# Altium footprint library CustomParts.PcbLib: 55 footprints (part 2 of 4)
Each footprint in its own frame and in the unit in brackets; x right, y up, seen from the top. Pads: shape width x height; smd on the part's side, far side on the other; paste and mask are expansions set on the pad; w line width, h text height; cw(c..) or ccw(c..) is an arc to the next point about the centre after c.
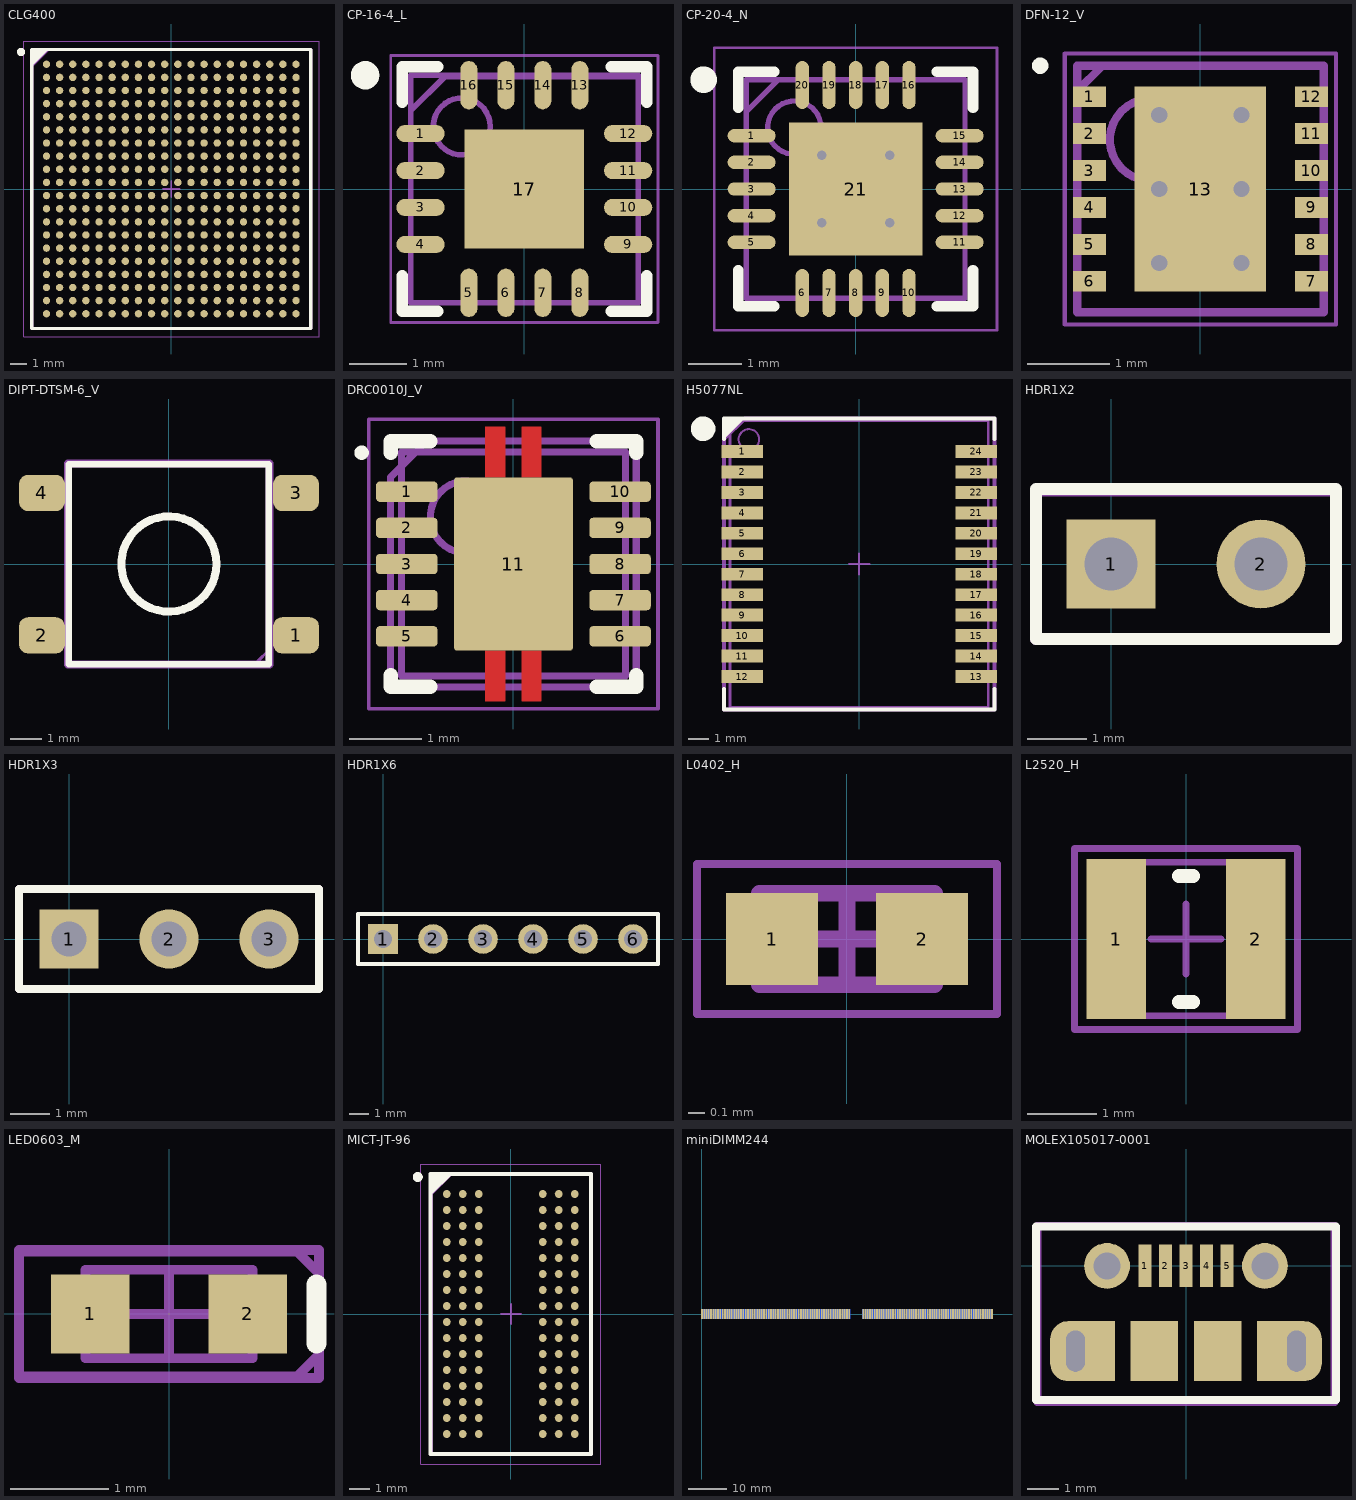
[diagram p1: the footprints below, top view; thin cyan lines are the x and y axes]

## CLG400 [mm] "BGA, 400-Balls, Body 17x17mm, Pitch 0.8mm"
height 1.6
pads (400):
  round 0.45 smd paste+0: A1(-7.6,7.6) A2(-6.8,7.6) A3(-6,7.6) A4(-5.2,7.6) A5(-4.4,7.6) A6(-3.6,7.6) A7(-2.8,7.6) A8(-2,7.6) A9(-1.2,7.6) A10(-0.4,7.6) A11(0.4,7.6) A12(1.2,7.6) A13(2,7.6) A14(2.8,7.6) A15(3.6,7.6) A16(4.4,7.6) A17(5.2,7.6) A18(6,7.6) A19(6.8,7.6) A20(7.6,7.6) B1(-7.6,6.8) B2(-6.8,6.8) B3(-6,6.8) B4(-5.2,6.8) B5(-4.4,6.8) B6(-3.6,6.8) B7(-2.8,6.8) B8(-2,6.8) B9(-1.2,6.8) B10(-0.4,6.8) B11(0.4,6.8) B12(1.2,6.8) B13(2,6.8) B14(2.8,6.8) B15(3.6,6.8) B16(4.4,6.8) B17(5.2,6.8) B18(6,6.8) B19(6.8,6.8) B20(7.6,6.8) C1(-7.6,6) C2(-6.8,6) C3(-6,6) C4(-5.2,6) C5(-4.4,6) C6(-3.6,6) C7(-2.8,6) C8(-2,6) C9(-1.2,6) C10(-0.4,6) C11(0.4,6) C12(1.2,6) C13(2,6) C14(2.8,6) C15(3.6,6) C16(4.4,6) C17(5.2,6) C18(6,6) C19(6.8,6) C20(7.6,6) D1(-7.6,5.2) D2(-6.8,5.2) D3(-6,5.2) D4(-5.2,5.2) D5(-4.4,5.2) D6(-3.6,5.2) D7(-2.8,5.2) D8(-2,5.2) D9(-1.2,5.2) D10(-0.4,5.2) D11(0.4,5.2) D12(1.2,5.2) D13(2,5.2) D14(2.8,5.2) D15(3.6,5.2) D16(4.4,5.2) D17(5.2,5.2) D18(6,5.2) D19(6.8,5.2) D20(7.6,5.2) E1(-7.6,4.4) E2(-6.8,4.4) E3(-6,4.4) E4(-5.2,4.4) E5(-4.4,4.4) E6(-3.6,4.4) E7(-2.8,4.4) E8(-2,4.4) E9(-1.2,4.4) E10(-0.4,4.4) E11(0.4,4.4) E12(1.2,4.4) E13(2,4.4) E14(2.8,4.4) E15(3.6,4.4) E16(4.4,4.4) E17(5.2,4.4) E18(6,4.4) E19(6.8,4.4) E20(7.6,4.4) F1(-7.6,3.6) F2(-6.8,3.6) F3(-6,3.6) F4(-5.2,3.6) F5(-4.4,3.6) F6(-3.6,3.6) F7(-2.8,3.6) F8(-2,3.6) F9(-1.2,3.6) F10(-0.4,3.6) F11(0.4,3.6) F12(1.2,3.6) F13(2,3.6) F14(2.8,3.6) F15(3.6,3.6) F16(4.4,3.6) F17(5.2,3.6) F18(6,3.6) F19(6.8,3.6) F20(7.6,3.6) G1(-7.6,2.8) G2(-6.8,2.8) G3(-6,2.8) G4(-5.2,2.8) G5(-4.4,2.8) G6(-3.6,2.8) G7(-2.8,2.8) G8(-2,2.8) G9(-1.2,2.8) G10(-0.4,2.8) G11(0.4,2.8) G12(1.2,2.8) G13(2,2.8) G14(2.8,2.8) G15(3.6,2.8) G16(4.4,2.8) G17(5.2,2.8) G18(6,2.8) G19(6.8,2.8) G20(7.6,2.8) H1(-7.6,2) H2(-6.8,2) H3(-6,2) H4(-5.2,2) H5(-4.4,2) H6(-3.6,2) H7(-2.8,2) H8(-2,2) H9(-1.2,2) H10(-0.4,2) H11(0.4,2) H12(1.2,2) H13(2,2) H14(2.8,2) H15(3.6,2) H16(4.4,2) H17(5.2,2) H18(6,2) H19(6.8,2) H20(7.6,2) J1(-7.6,1.2) J2(-6.8,1.2) J3(-6,1.2) J4(-5.2,1.2) J5(-4.4,1.2) J6(-3.6,1.2) J7(-2.8,1.2) J8(-2,1.2) J9(-1.2,1.2) J10(-0.4,1.2) J11(0.4,1.2) J12(1.2,1.2) J13(2,1.2) J14(2.8,1.2) J15(3.6,1.2) J16(4.4,1.2) J17(5.2,1.2) J18(6,1.2) J19(6.8,1.2) J20(7.6,1.2) K1(-7.6,0.4) K2(-6.8,0.4) K3(-6,0.4) K4(-5.2,0.4) K5(-4.4,0.4) K6(-3.6,0.4) K7(-2.8,0.4) K8(-2,0.4) K9(-1.2,0.4) K10(-0.4,0.4) K11(0.4,0.4) K12(1.2,0.4) K13(2,0.4) K14(2.8,0.4) K15(3.6,0.4) K16(4.4,0.4) K17(5.2,0.4) K18(6,0.4) K19(6.8,0.4) K20(7.6,0.4) L1(-7.6,-0.4) L2(-6.8,-0.4) L3(-6,-0.4) L4(-5.2,-0.4) L5(-4.4,-0.4) L6(-3.6,-0.4) L7(-2.8,-0.4) L8(-2,-0.4) L9(-1.2,-0.4) L10(-0.4,-0.4) L11(0.4,-0.4) L12(1.2,-0.4) L13(2,-0.4) L14(2.8,-0.4) L15(3.6,-0.4) L16(4.4,-0.4) L17(5.2,-0.4) L18(6,-0.4) L19(6.8,-0.4) L20(7.6,-0.4) M1(-7.6,-1.2) M2(-6.8,-1.2) M3(-6,-1.2) M4(-5.2,-1.2) M5(-4.4,-1.2) M6(-3.6,-1.2) M7(-2.8,-1.2) M8(-2,-1.2) M9(-1.2,-1.2) M10(-0.4,-1.2) M11(0.4,-1.2) M12(1.2,-1.2) M13(2,-1.2) M14(2.8,-1.2) M15(3.6,-1.2) M16(4.4,-1.2) M17(5.2,-1.2) M18(6,-1.2) M19(6.8,-1.2) M20(7.6,-1.2) N1(-7.6,-2) N2(-6.8,-2) N3(-6,-2) N4(-5.2,-2) N5(-4.4,-2) N6(-3.6,-2) N7(-2.8,-2) N8(-2,-2) N9(-1.2,-2) N10(-0.4,-2) N11(0.4,-2) N12(1.2,-2) N13(2,-2) N14(2.8,-2) N15(3.6,-2) N16(4.4,-2) N17(5.2,-2) N18(6,-2) N19(6.8,-2) N20(7.6,-2) P1(-7.6,-2.8) P2(-6.8,-2.8) P3(-6,-2.8) P4(-5.2,-2.8) P5(-4.4,-2.8) P6(-3.6,-2.8) P7(-2.8,-2.8) P8(-2,-2.8) P9(-1.2,-2.8) P10(-0.4,-2.8) P11(0.4,-2.8) P12(1.2,-2.8) P13(2,-2.8) P14(2.8,-2.8) P15(3.6,-2.8) P16(4.4,-2.8) P17(5.2,-2.8) P18(6,-2.8) P19(6.8,-2.8) P20(7.6,-2.8) R1(-7.6,-3.6) R2(-6.8,-3.6) R3(-6,-3.6) R4(-5.2,-3.6) R5(-4.4,-3.6) R6(-3.6,-3.6) R7(-2.8,-3.6) R8(-2,-3.6) R9(-1.2,-3.6) R10(-0.4,-3.6) R11(0.4,-3.6) R12(1.2,-3.6) R13(2,-3.6) R14(2.8,-3.6) R15(3.6,-3.6) R16(4.4,-3.6) R17(5.2,-3.6) R18(6,-3.6) R19(6.8,-3.6) R20(7.6,-3.6) T1(-7.6,-4.4) T2(-6.8,-4.4) T3(-6,-4.4) T4(-5.2,-4.4) T5(-4.4,-4.4) T6(-3.6,-4.4) T7(-2.8,-4.4) T8(-2,-4.4) T9(-1.2,-4.4) T10(-0.4,-4.4) T11(0.4,-4.4) T12(1.2,-4.4) T13(2,-4.4) T14(2.8,-4.4) T15(3.6,-4.4) T16(4.4,-4.4) T17(5.2,-4.4) T18(6,-4.4) T19(6.8,-4.4) T20(7.6,-4.4) U1(-7.6,-5.2) U2(-6.8,-5.2) U3(-6,-5.2) U4(-5.2,-5.2) U5(-4.4,-5.2) U6(-3.6,-5.2) U7(-2.8,-5.2) U8(-2,-5.2) U9(-1.2,-5.2) U10(-0.4,-5.2) U11(0.4,-5.2) U12(1.2,-5.2) U13(2,-5.2) U14(2.8,-5.2) U15(3.6,-5.2) U16(4.4,-5.2) U17(5.2,-5.2) U18(6,-5.2) U19(6.8,-5.2) U20(7.6,-5.2) V1(-7.6,-6) V2(-6.8,-6) V3(-6,-6) V4(-5.2,-6) V5(-4.4,-6) V6(-3.6,-6) V7(-2.8,-6) V8(-2,-6) V9(-1.2,-6) V10(-0.4,-6) V11(0.4,-6) V12(1.2,-6) V13(2,-6) V14(2.8,-6) V15(3.6,-6) V16(4.4,-6) V17(5.2,-6) V18(6,-6) V19(6.8,-6) V20(7.6,-6) W1(-7.6,-6.8) W2(-6.8,-6.8) W3(-6,-6.8) W4(-5.2,-6.8) W5(-4.4,-6.8) W6(-3.6,-6.8) W7(-2.8,-6.8) W8(-2,-6.8) W9(-1.2,-6.8) W10(-0.4,-6.8) W11(0.4,-6.8) W12(1.2,-6.8) W13(2,-6.8) W14(2.8,-6.8) W15(3.6,-6.8) W16(4.4,-6.8) W17(5.2,-6.8) W18(6,-6.8) W19(6.8,-6.8) W20(7.6,-6.8) Y1(-7.6,-7.6) Y2(-6.8,-7.6) Y3(-6,-7.6) Y4(-5.2,-7.6) Y5(-4.4,-7.6) Y6(-3.6,-7.6) Y7(-2.8,-7.6) Y8(-2,-7.6) Y9(-1.2,-7.6) Y10(-0.4,-7.6) Y11(0.4,-7.6) Y12(1.2,-7.6) Y13(2,-7.6) Y14(2.8,-7.6) Y15(3.6,-7.6) Y16(4.4,-7.6) Y17(5.2,-7.6) Y18(6,-7.6) Y19(6.8,-7.6) Y20(7.6,-7.6)
Top Overlay:
  circle w0.25: c-9.15,8.35 r0.125
  region: -7.584,8.5 -8.5,7.584 -8.5,8.5
  lines w0.2: -8.5,7.584 -7.584,8.5 ; -8.5,-8.5 8.5,-8.5 8.5,8.5 -8.5,8.5 -8.5,-8.5
Mechanical 13:
  lines w0.1: -8.5,-8.5 8.5,-8.5 8.5,8.5 -8.5,8.5 -8.5,-8.5
Mechanical 15:
  lines w0.05: -9,-9 9,-9 9,9 -9,9 -9,-9
  lines w0.1: -0.5,0 0.5,0 ; 0,-0.5 0,0.5
Assembly Drawing:
  lines w0.2: -8.5,-8.5 -8.5,7.5 -7.5,8.5 8.5,8.5 8.5,-8.5 -8.5,-8.5
  text ".Designator" at -2.5,-1.5 h3
3D body: height 1.6, standoff 0.35, extent -8.5,-8.5 8.5,8.5

## CP-16-4_L [mm] "QFN, 16-Leads, Body 4x4mm, Pitch 0.65mm, Thermal Pad 2.1x2.1mm, IPC High Density"
height 1
pads (17):
  oval 0.85x0.3 smd: 1(-1.825,0.975) 2(-1.825,0.325) 3(-1.825,-0.325) 4(-1.825,-0.975) 9(1.825,-0.975) 10(1.825,-0.325) 11(1.825,0.325) 12(1.825,0.975)
  oval 0.3x0.85 smd: 5(-0.975,-1.825) 6(-0.325,-1.825) 7(0.325,-1.825) 8(0.975,-1.825) 13(0.975,1.825) 14(0.325,1.825) 15(-0.325,1.825) 16(-0.975,1.825)
  rect 2.1x2.1 smd paste-20: 17(0,0)
Top Overlay:
  circle w0.25: c-2.8,2 r0.125
  lines w0.2: -2.15,-1.525 -2.15,-2.15 -1.525,-2.15 ; -2.15,1.525 -2.15,2.15 -1.525,2.15 ; 1.525,-2.15 2.15,-2.15 2.15,-1.525 ; 1.525,2.15 2.15,2.15 2.15,1.525
Top Paste:
  rectangle: -1.016,-1.016 -0.127,-0.127
  rectangle: 0.127,-1.016 1.016,-0.127
  rectangle: 0.127,0.127 1.016,1.016
  rectangle: -1.016,0.127 -0.127,1.016
Mechanical 13:
  circle w0.1: c-1.1,1.1 r0.5
  lines w0.1: -2,-2 -2,2 2,2 2,-2 -2,-2
Mechanical 15:
  lines w0.05: -2.35,-2.35 -2.35,2.35 2.35,2.35 2.35,-2.35 -2.35,-2.35
  lines w0.1: -0.5,0 0.5,0 ; 0,-0.5 0,0.5
Assembly Drawing:
  lines w0.1: -2,-2 2,-2 2,1.975 -1.4,1.975 -2,1.375 -2,-2
  text ".Designator" at -0.925,-0.375 h0.8
3D body: height 1, standoff 0, extent -2,-2 2,2

## CP-20-4_N [mm] "QFN, 20-Leads, Body 4x4mm, Pitch 0.5mm, Thermal Pad 2.5x2.5mm, IPC Medium Density"
height 1
pads (21):
  oval 0.9x0.25 smd: 1(-1.95,1) 2(-1.95,0.5) 3(-1.95,0) 4(-1.95,-0.5) 5(-1.95,-1) 11(1.95,-1) 12(1.95,-0.5) 13(1.95,0) 14(1.95,0.5) 15(1.95,1)
  oval 0.25x0.9 smd: 6(-1,-1.95) 7(-0.5,-1.95) 8(0,-1.95) 9(0.5,-1.95) 10(1,-1.95) 16(1,1.95) 17(0.5,1.95) 18(0,1.95) 19(-0.5,1.95) 20(-1,1.95)
  rect 2.5x2.5 smd paste-20: 21(0,0)
via -0.635,0.635 diameter 0.432 hole 0.178
via 0.635,0.635 diameter 0.432 hole 0.178
via 0.635,-0.635 diameter 0.432 hole 0.178
via -0.635,-0.635 diameter 0.432 hole 0.178
Top Overlay:
  circle w0.25: c-2.85,2.05 r0.125
  lines w0.2: -2.2,-1.525 -2.2,-2.2 -1.525,-2.2 ; -2.2,1.525 -2.2,2.2 -1.525,2.2 ; 1.525,-2.2 2.2,-2.2 2.2,-1.525 ; 1.525,2.2 2.2,2.2 2.2,1.525
Top Paste:
  rectangle: -1.143,0.127 -0.127,1.143
  rectangle: 0.127,0.127 1.143,1.143
  rectangle: -1.143,-1.143 -0.127,-0.127
  rectangle: 0.127,-1.143 1.143,-0.127
Mechanical 13:
  circle w0.1: c-1.15,1.15 r0.5
  lines w0.1: -2.05,-2.05 2.05,-2.05 2.05,2.05 -2.05,2.05 -2.05,-2.05
Mechanical 15:
  lines w0.05: -2.65,-2.65 2.65,-2.65 2.65,2.65 -2.65,2.65 -2.65,-2.65
  lines w0.1: -0.5,0 0.5,0 ; 0,-0.5 0,0.5
Assembly Drawing:
  lines w0.1: -2.05,-2.05 2.05,-2.05 2.05,2.05 -1.45,2.05 -2.05,1.45 -2.05,-2.05
  text ".Designator" at -1.125,-0.4 h0.8
3D body: height 1, standoff 0, extent -2.05,-2.05 2.05,2.05

## DFN-12_V [mm] "SON, 12-Leads, Body 3x3mm, Pitch 0.45mm, Thermal Pad 2.5x1.6mm"
height 0.9
pads (13):
  rect 0.4x0.25 smd: 1(-1.35,1.125) 2(-1.35,0.675) 3(-1.35,0.225) 4(-1.35,-0.225) 5(-1.35,-0.675) 6(-1.35,-1.125) 7(1.35,-1.125) 8(1.35,-0.675) 9(1.35,-0.225) 10(1.35,0.225) 11(1.35,0.675) 12(1.35,1.125)
  rect 1.6x2.5 smd mask+0.102: 13(0,0)
via 0.5,0 diameter 0.5 hole 0.2
via 0.5,-0.9 diameter 0.5 hole 0.2
via -0.5,-0.9 diameter 0.5 hole 0.2
via -0.5,0 diameter 0.5 hole 0.2
via 0.5,0.9 diameter 0.5 hole 0.2
via -0.5,0.9 diameter 0.5 hole 0.2
Top Overlay:
  circle w0.1: c-1.95,1.5 r0.05
Mechanical 13:
  circle w0.1: c-0.6,0.6 r0.5
  lines w0.1: -1.5,-1.5 -1.5,1.5 1.5,1.5 1.5,-1.5 -1.5,-1.5
Mechanical 15:
  lines w0.05: -1.65,-1.65 1.65,-1.65 1.65,1.65 -1.65,1.65 -1.65,-1.65
  lines w0.1: -0.5,0 0.5,0 ; 0,-0.5 0,0.5
Assembly Drawing:
  lines w0.1: -1.499,1.168 -1.499,1.194 -1.194,1.499 ; -1.499,-1.499 1.499,-1.499 1.499,1.499 -1.499,1.499 -1.499,-1.499
  text ".Designator" at -0.635,-0.254 h0.6
3D body: height 0.9, standoff 0, extent -1.5,-1.5 1.5,1.5

## DIPT-DTSM-6_V [mm] "Switch, Through-Hole, 4 Leads, Body 8.5x8.5mm, Row Spacing 9.0mm, Pitch 4.5mm"
pads (4):
  rrect50% 1.448x1.143 smd: 1(4.01,-2.25) 2(-4,-2.25) 3(4.01,2.24) 4(-4,2.24)
Top Overlay:
  circle w0.254: c0,0 r1.5
  lines w0.2: -3.16,-3.16 3.15,-3.16 3.15,3.15 -3.16,3.15 -3.16,-3.16
Assembly Drawing:
  lines w0.1: 2.54,-3.175 2.692,-3.175 3.251,-2.616
  lines w0.25: -3.175,-3.175 -3.175,3.175 3.175,3.175 3.175,-3.175 -3.175,-3.175
  text ".Designator" at -1.143,-0.508 h1
3D body "Switch SPNO - DTSM-6.stp": height 4.5, standoff 0, extent -4.5,-3.1 4.5,3.1

## DRC0010J_V [mm] "SON, 10-Leads, Body 3x3mm, Pitch 0.5mm, Thermal Pad 2.4x1.65mm, TI Recommended"
height 1
pads (11):
  rrect36% 0.85x0.28 smd paste-0.025 mask+0.07: 1(-1.475,1) 2(-1.475,0.5) 3(-1.475,0) 4(-1.475,-0.5) 5(-1.475,-1) 6(1.475,-1) 7(1.475,-0.5) 8(1.475,0) 9(1.475,0.5) 10(1.475,1)
  rrect6% 1.65x2.4 smd paste-0.825 mask+0.07: 11(0,0)
Top Layer:
  rectangle: -0.39,1.2 -0.11,1.9
  region: 0.39,1.9 0.11,1.9 0.11,1.2 0.39,1.2
  region: 0.39,-1.2 0.11,-1.2 0.11,-1.9 0.39,-1.9
  rectangle: -0.39,-1.9 -0.11,-1.2
Top Overlay:
  circle w0.1: c-2.1,1.54 r0.05
  lines w0.2: -1.7,-1.54 -1.7,-1.7 -1.15,-1.7 ; -1.7,1.54 -1.7,1.7 -1.15,1.7 ; 1.15,-1.7 1.7,-1.7 1.7,-1.54 ; 1.15,1.7 1.7,1.7 1.7,1.54
Top Paste:
  rectangle: -0.79,0.11 -0.11,1.16
  rectangle: -0.38,1.38 -0.12,1.88
  region: 0.38,1.88 0.12,1.88 0.12,1.38 0.38,1.38
  region: 0.38,-1.38 0.12,-1.38 0.12,-1.88 0.38,-1.88
  rectangle: -0.38,-1.88 -0.12,-1.38
  region: 0.79,1.16 0.11,1.16 0.11,0.11 0.79,0.11
  region: 0.79,-0.11 0.11,-0.11 0.11,-1.16 0.79,-1.16
  rectangle: -0.79,-1.16 -0.11,-0.11
Mechanical 13:
  circle w0.1: c-0.65,0.65 r0.5
  lines w0.1: -1.55,-1.55 -1.55,1.55 1.55,1.55 1.55,-1.55 -1.55,-1.55
Mechanical 15:
  lines w0.05: -2,-2 -2,2 2,2 2,-2 -2,-2
Assembly Drawing:
  lines w0.1: -1.7,-1.7 -1.7,1.2 -1.2,1.7 1.7,1.7 1.7,-1.7 -1.7,-1.7
  text ".Designator" at -0.9,-0.4 h0.8
3D body: height 1, standoff 0, extent -1.55,-1.55 1.55,1.55

## H5077NL [mm] "SOJ, 24-Leads, Body 13.97x12.57mm, Pitch 1.00mm, IPC High Density"
height 4.57
pads (24):
  rect 2.03x0.63 smd: 1(-5.715,5.5) 2(-5.715,4.5) 3(-5.715,3.5) 4(-5.715,2.5) 5(-5.715,1.5) 6(-5.715,0.5) 7(-5.715,-0.5) 8(-5.715,-1.5) 9(-5.715,-2.5) 10(-5.715,-3.5) 11(-5.715,-4.5) 12(-5.715,-5.5) 13(5.715,-5.5) 14(5.715,-4.5) 15(5.715,-3.5) 16(5.715,-2.5) 17(5.715,-1.5) 18(5.715,-0.5) 19(5.715,0.5) 20(5.715,1.5) 21(5.715,2.5) 22(5.715,3.5) 23(5.715,4.5) 24(5.715,5.5)
Top Overlay:
  circle w0.6: c-7.62,6.604 r0.3
  region: -6.604,6.096 -5.588,7.112 -6.604,7.112
  lines w0.2: -6.604,-6.096 -6.604,-7.112 6.604,-7.112 6.604,-6.096 ; -6.604,6.096 -6.604,7.112 6.604,7.112 6.604,6.096
Mechanical 13:
  circle w0.1: c-5.385,6.085 r0.5
  lines w0.1: -6.285,-6.985 -6.285,6.985 6.285,6.985 6.285,-6.985 -6.285,-6.985
Mechanical 15:
  lines w0.05: -6.35,-7.1 -6.35,7.1 6.35,7.1 6.35,-7.1 -6.35,-7.1
  lines w0.1: -0.5,0 0.5,0 ; 0,-0.5 0,0.5
Assembly Drawing:
  lines w0.2: -6.604,-7.112 -6.604,6.096 -5.588,7.112 6.604,7.112 6.604,-7.112 -6.604,-7.112
  text ".Designator" at -2.9,-0.9 h2
3D body: height 4.57, standoff 0.5, extent -6.285,-6.985 6.285,6.985

## HDR1X2 [mm] "Connector; Header; 2 Position"
pads (2):
  rect 1.5x1.5 hole 0.9: 1(0,0)
  round 1.5 hole 0.9: 2(2.54,0)
Top Overlay:
  lines w0.2: -1.27,-1.27 -1.27,1.27 3.81,1.27 3.81,-1.27 -1.27,-1.27
Assembly Drawing:
  lines w0.2: -1.27,-1.27 -1.27,1.245 3.785,1.245 3.81,1.219 3.81,-1.27 -1.27,-1.27
  text ".Designator" at -0.33,-0.432 h1

## HDR1X3 [mm] "Connector; Header; 3 Position"
pads (3):
  rect 1.5x1.5 hole 0.9: 1(0,0)
  round 1.5 hole 0.9: 2(2.54,0) 3(5.08,0)
Top Overlay:
  lines w0.2: -1.27,-1.27 -1.27,1.27 6.35,1.27 6.35,-1.27 -1.27,-1.27
Assembly Drawing:
  lines w0.2: -1.27,-1.27 6.325,-1.27 6.35,-1.245 6.35,1.27 -1.27,1.27 -1.27,-1.27
  text ".Designator" at 1.397,-0.483 h1

## HDR1X6 [mm] "Connector; Header; 6 Position"
pads (6):
  rect 1.5x1.5 hole 0.9: 1(0,0)
  round 1.5 hole 0.9: 2(2.54,0) 3(5.08,0) 4(7.62,0) 5(10.16,0) 6(12.7,0)
Top Overlay:
  lines w0.2: -1.27,-1.27 13.97,-1.27 13.97,1.27 -1.27,1.27 -1.27,-1.27
Assembly Drawing:
  lines w0.2: -1.27,-1.27 -1.27,1.27 13.97,1.27 13.97,-1.27 -1.27,-1.27
  text ".Designator" at 4.902,-0.483 h1

## L0402_H [mm] "Chip Inductor, 2-Leads, Body 1.00x0.50mm, IPC High Density"
height 0.55
pads (2):
  rect 0.55x0.55 smd: 1(-0.45,0) 2(0.45,0)
Mechanical 13:
  lines w0.1: -0.525,-0.275 0.525,-0.275 0.525,0.275 -0.525,0.275 -0.525,-0.275
Mechanical 15:
  lines w0.05: -0.9,-0.45 0.9,-0.45 0.9,0.45 -0.9,0.45 -0.9,-0.45
  lines w0.1: -0.275,0 0.275,0 ; 0,-0.275 0,0.275
Assembly Drawing:
  lines w0.05: -0.9,-0.45 0.9,-0.45 0.9,0.45 -0.9,0.45 -0.9,-0.45
  text ".Designator" at -0.375,-0.125 h0.3
3D body: height 0.55, standoff 0, extent -0.275,-0.275 0.275,0.275
3D body: height 0.55, standoff 0, extent -0.525,-0.275 -0.275,0.275
3D body: height 0.55, standoff 0, extent 0.275,-0.275 0.525,0.275
3D body: height 0.35, standoff 0, extent 0.275,-0.275 0.525,0.275
3D body: height 0.35, standoff 0, extent -0.525,-0.275 -0.275,0.275
3D body: height 0.35, standoff 0, extent -0.275,-0.275 0.275,0.275

## L2520_H [mm] "Chip Inductor, 2-Leads, Body 2.50x2.00mm, IPC High Density"
height 1.2
pads (2):
  rect 0.85x2.3 smd: 1(-1,0) 2(1,0)
Top Overlay:
  lines w0.2: -0.1,-0.9 0.1,-0.9 ; -0.1,0.9 0.1,0.9
Mechanical 13:
  lines w0.1: -1.35,-1.1 1.35,-1.1 1.35,1.1 -1.35,1.1 -1.35,-1.1
Mechanical 15:
  lines w0.05: -1.6,-1.3 1.6,-1.3 1.6,1.3 -1.6,1.3 -1.6,-1.3
  lines w0.1: -0.5,0 0.5,0 ; 0,-0.5 0,0.5
Assembly Drawing:
  lines w0.1: -1.6,-1.3 1.6,-1.3 1.6,1.3 -1.6,1.3 -1.6,-1.3
  text ".Designator" at -0.629,-0.204 h0.5
3D body: height 1.2, standoff 0, extent 0.75,-1.1 1.35,1.1
3D body: height 1.2, standoff 0, extent -1.35,-1.1 -0.75,1.1
3D body: height 1.2, standoff 0, extent -0.75,-1.1 0.75,1.1

## LED0603_M [mm] "Chip LED, 2-Leads, Body 1.6x0.8mm, IPC Medium Density"
height 0.68
pads (2):
  rect 0.8x0.8 smd: 1(-0.8,0) 2(0.8,0)
Top Overlay:
  lines w0.2: 1.5,-0.3 1.5,0.3
Mechanical 13:
  lines w0.1: -0.85,-0.45 -0.85,0.45 0.85,0.45 0.85,-0.45 -0.85,-0.45
Mechanical 15:
  lines w0.1: -0.45,0 0.45,0 ; 0,-0.45 0,0.45 ; -1.525,-0.65 -1.525,0.65 1.525,0.65 1.525,-0.65 -1.525,-0.65
Assembly Drawing:
  lines w0.102: -1.524,-0.635 1.3,-0.635 1.524,-0.411 1.524,0.411 1.3,0.635 -1.524,0.635 -1.524,-0.635
  text ".Designator" at -0.635,-0.127 h0.4
3D body "WL-SMCW_0603_LED.stp": height 0.7, standoff 0, extent -0.8,-0.4 0.8,0.4

## MICT-JT-96 [mm] "BGA, 96-Balls, Body 14x8mm, Pitch 0.8mm"
pads (96):
  round 0.4 smd paste+0: A1(-3.2,6) A2(-2.4,6) A3(-1.6,6) A7(1.6,6) A8(2.4,6) A9(3.2,6) B1(-3.2,5.2) B2(-2.4,5.2) B3(-1.6,5.2) B7(1.6,5.2) B8(2.4,5.2) B9(3.2,5.2) C1(-3.2,4.4) C2(-2.4,4.4) C3(-1.6,4.4) C7(1.6,4.4) C8(2.4,4.4) C9(3.2,4.4) D1(-3.2,3.6) D2(-2.4,3.6) D3(-1.6,3.6) D7(1.6,3.6) D8(2.4,3.6) D9(3.2,3.6) E1(-3.2,2.8) E2(-2.4,2.8) E3(-1.6,2.8) E7(1.6,2.8) E8(2.4,2.8) E9(3.2,2.8) F1(-3.2,2) F2(-2.4,2) F3(-1.6,2) F7(1.6,2) F8(2.4,2) F9(3.2,2) G1(-3.2,1.2) G2(-2.4,1.2) G3(-1.6,1.2) G7(1.6,1.2) G8(2.4,1.2) G9(3.2,1.2) H1(-3.2,0.4) H2(-2.4,0.4) H3(-1.6,0.4) H7(1.6,0.4) H8(2.4,0.4) H9(3.2,0.4) J1(-3.2,-0.4) J2(-2.4,-0.4) J3(-1.6,-0.4) J7(1.6,-0.4) J8(2.4,-0.4) J9(3.2,-0.4) K1(-3.2,-1.2) K2(-2.4,-1.2) K3(-1.6,-1.2) K7(1.6,-1.2) K8(2.4,-1.2) K9(3.2,-1.2) L1(-3.2,-2) L2(-2.4,-2) L3(-1.6,-2) L7(1.6,-2) L8(2.4,-2) L9(3.2,-2) M1(-3.2,-2.8) M2(-2.4,-2.8) M3(-1.6,-2.8) M7(1.6,-2.8) M8(2.4,-2.8) M9(3.2,-2.8) N1(-3.2,-3.6) N2(-2.4,-3.6) N3(-1.6,-3.6) N7(1.6,-3.6) N8(2.4,-3.6) N9(3.2,-3.6) P1(-3.2,-4.4) P2(-2.4,-4.4) P3(-1.6,-4.4) P7(1.6,-4.4) P8(2.4,-4.4) P9(3.2,-4.4) R1(-3.2,-5.2) R2(-2.4,-5.2) R3(-1.6,-5.2) R7(1.6,-5.2) R8(2.4,-5.2) R9(3.2,-5.2) T1(-3.2,-6) T2(-2.4,-6) T3(-1.6,-6) T7(1.6,-6) T8(2.4,-6) T9(3.2,-6)
Top Overlay:
  circle w0.25: c-4.65,6.85 r0.125
  region: -3.049,7 -4,6.049 -4,7
  lines w0.2: -4,6.049 -3.049,7 ; -4,-7 -4,7 4,7 4,-7 -4,-7
Mechanical 13:
  lines w0.1: -4,-7 -4,7 4,7 4,-7 -4,-7
Mechanical 15:
  lines w0.05: -4.5,-7.5 -4.5,7.5 4.5,7.5 4.5,-7.5 -4.5,-7.5
  lines w0.1: -0.5,0 0.5,0 ; 0,-0.5 0,0.5
Assembly Drawing:
  lines w0.2: -4,-7 4,-7 4,7 -3,7 -4,6 -4,-7
  text ".Designator" at -2.4,-1.4 h3
3D body: height 0.25, standoff 0, extent -4,-7 4,7

## miniDIMM244 [mm] "244-pin miniDIMM pads"
pads (244):
  rect 0.45x2.55 smd paste-20 mask+0: 1(0,0) 2(0.6,0) 3(1.2,0) 4(1.8,0) 5(2.4,0) 6(3,0) 7(3.6,0) 8(4.2,0) 9(4.8,0) 10(5.4,0) 11(6,0) 12(6.6,0) 13(7.2,0) 14(7.8,0) 15(8.4,0) 16(9,0) 17(9.6,0) 18(10.2,0) 19(10.8,0) 20(11.4,0) 21(12,0) 22(12.6,0) 23(13.2,0) 24(13.8,0) 25(14.4,0) 26(15,0) 27(15.6,0) 28(16.2,0) 29(16.8,0) 30(17.4,0) 31(18,0) 32(18.6,0) 33(19.2,0) 34(19.8,0) 35(20.4,0) 36(21,0) 37(21.6,0) 38(22.2,0) 39(22.8,0) 40(23.4,0) 41(24,0) 42(24.6,0) 43(25.2,0) 44(25.8,0) 45(26.4,0) 46(27,0) 47(27.6,0) 48(28.2,0) 49(28.8,0) 50(29.4,0) 51(30,0) 52(30.6,0) 53(31.2,0) 54(31.8,0) 55(32.4,0) 56(33,0) 57(33.6,0) 58(34.2,0) 59(34.8,0) 60(35.4,0) 61(36,0) 62(36.6,0) 63(37.2,0) 64(37.8,0) 65(38.4,0) 66(42,0) 67(42.6,0) 68(43.2,0) 69(43.8,0) 70(44.4,0) 71(45,0) 72(45.6,0) 73(46.2,0) 74(46.8,0) 75(47.4,0) 76(48,0) 77(48.6,0) 78(49.2,0) 79(49.8,0) 80(50.4,0) 81(51,0) 82(51.6,0) 83(52.2,0) 84(52.8,0) 85(53.4,0) 86(54,0) 87(54.6,0) 88(55.2,0) 89(55.8,0) 90(56.4,0) 91(57,0) 92(57.6,0) 93(58.2,0) 94(58.8,0) 95(59.4,0) 96(60,0) 97(60.6,0) 98(61.2,0) 99(61.8,0) 100(62.4,0) 101(63,0) 102(63.6,0) 103(64.2,0) 104(64.8,0) 105(65.4,0) 106(66,0) 107(66.6,0) 108(67.2,0) 109(67.8,0) 110(68.4,0) 111(69,0) 112(69.6,0) 113(70.2,0) 114(70.8,0) 115(71.4,0) 116(72,0) 117(72.6,0) 118(73.2,0) 119(73.8,0) 120(74.4,0) 121(75,0) 122(75.6,0)
  rect 0.45x2.55 smd far side paste-20 mask+0: 123(0,0) 124(0.6,0) 125(1.2,0) 126(1.8,0) 127(2.4,0) 128(3,0) 129(3.6,0) 130(4.2,0) 131(4.8,0) 132(5.4,0) 133(6,0) 134(6.6,0) 135(7.2,0) 136(7.8,0) 137(8.4,0) 138(9,0) 139(9.6,0) 140(10.2,0) 141(10.8,0) 142(11.4,0) 143(12,0) 144(12.6,0) 145(13.2,0) 146(13.8,0) 147(14.4,0) 148(15,0) 149(15.6,0) 150(16.2,0) 151(16.8,0) 152(17.4,0) 153(18,0) 154(18.6,0) 155(19.2,0) 156(19.8,0) 157(20.4,0) 158(21,0) 159(21.6,0) 160(22.2,0) 161(22.8,0) 162(23.4,0) 163(24,0) 164(24.6,0) 165(25.2,0) 166(25.8,0) 167(26.4,0) 168(27,0) 169(27.6,0) 170(28.2,0) 171(28.8,0) 172(29.4,0) 173(30,0) 174(30.6,0) 175(31.2,0) 176(31.8,0) 177(32.4,0) 178(33,0) 179(33.6,0) 180(34.2,0) 181(34.8,0) 182(35.4,0) 183(36,0) 184(36.6,0) 185(37.2,0) 186(37.8,0) 187(38.4,0) 188(42,0) 189(42.6,0) 190(43.2,0) 191(43.8,0) 192(44.4,0) 193(45,0) 194(45.6,0) 195(46.2,0) 196(46.8,0) 197(47.4,0) 198(48,0) 199(48.6,0) 200(49.2,0) 201(49.8,0) 202(50.4,0) 203(51,0) 204(51.6,0) 205(52.2,0) 206(52.8,0) 207(53.4,0) 208(54,0) 209(54.6,0) 210(55.2,0) 211(55.8,0) 212(56.4,0) 213(57,0) 214(57.6,0) 215(58.2,0) 216(58.8,0) 217(59.4,0) 218(60,0) 219(60.6,0) 220(61.2,0) 221(61.8,0) 222(62.4,0) 223(63,0) 224(63.6,0) 225(64.2,0) 226(64.8,0) 227(65.4,0) 228(66,0) 229(66.6,0) 230(67.2,0) 231(67.8,0) 232(68.4,0) 233(69,0) 234(69.6,0) 235(70.2,0) 236(70.8,0) 237(71.4,0) 238(72,0) 239(72.6,0) 240(73.2,0) 241(73.8,0) 242(74.4,0) 243(75,0) 244(75.6,0)

## MOLEX105017-0001 [mm] "Connector; Micro USB Bottom Mount Receptable, B Type"
height 1.85
pads (13):
  rect 0.4x1.35 smd: 1(-1.3,0) 2(-0.65,0) 3(0,0) 4(0.65,0) 5(1.3,0)
  rrect70% 1.6x1.9 hole 0.6 slot 1.3 at 90 deg: ""(-3.5,-2.7) ""(3.5,-2.7)
  rect 1.2x1.9 smd: ""(-2.85,-2.7) ""(2.85,-2.7)
  round 1.45 hole 0.85: ""(-2.5,0) ""(2.5,0)
  rect 1.5x1.9 smd: ""(-1,-2.7) ""(1,-2.7)
Top Overlay:
  lines w0.254: -4.75,-4.25 -4.75,1.25 4.75,1.25 4.75,-4.25 -4.75,-4.25
Assembly Drawing:
  lines w0.25: -4.699,-4.318 4.699,-4.318 4.699,1.27 -4.699,1.27 -4.699,-4.318
  text ".Designator" at -1.397,-2.286 h2
3D body "1050170001.stp": height 2.73, standoff -0.58, extent -4.1,-5.3 4.1,0.1